# Altium integrated library SX1262IMLTRT.IntLib: 1 symbol
Pins are listed as number, name and electrical type; pins without a type are passive.

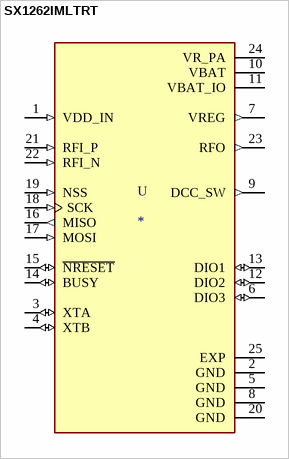
[diagram p0: symbol SX1262IMLTRT]

## SX1262IMLTRT
designator U
IC RF TxRx Only General ISM < 1GHz LoRaWAN 150MHz ~ 960MHz 24-VFQFN Exposed Pad; MF: Semtech Corporation; MP: SX1262IMLTRT; Value: *; SnapEDA_Link: https://www.snapeda.com/parts/SX1262IMLTRT/Semtech%20Corporation/view-part/2781045/?ref=snap; Availability: Unavailable; Package: VFQFN-24 Semtech; Price: None
footprint QFN50P400X400X100-25N
pins: 1 VDD_IN (in), 2 GND (power), 3 XTA (io), 4 XTB (io), 5 GND (power), 6 DIO3 (io), 7 VREG (out), 8 GND (power), 9 DCC_SW (out), 10 VBAT (power), 11 VBAT_IO (power), 12 DIO2 (io), 13 DIO1 (io), 14 BUSY (io), 15 ~{NRESET} (io), 16 MISO (out), 17 MOSI (in), 18 SCK (in), 19 NSS (in), 20 GND (power), 21 RFI_P (in), 22 RFI_N (in), 23 RFO (out), 24 VR_PA (power), 25 EXP (power)